# Altium schematic symbol library MOSFET.SchLib: 5 symbols
Pins are listed as number, name and electrical type; pins without a type are passive.

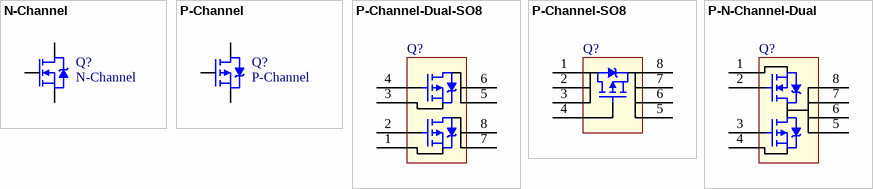
[diagram p0: symbols N-Channel to P-N-Channel-Dual]

## N-Channel
designator Q?
HEXFET Power MOSFET; value: *
footprint SOT-23-3
pins: 1 G, 2 S, 3 D

## P-Channel
designator Q?
HEXFET Power MOSFET; value: *
footprint SOT-23-3
pins: 1 G, 2 S, 3 D

## P-Channel-Dual-SO8
designator Q?, comment Dual P-Channel  (value not drawn)
Dual MOSFET; value: *
footprint SO-8_N (8-Pin Small Outline Integrated Circuit 1.27 mm Pitch, IPC Medium Density)
pins: 1 S2, 2 G2, 3 S1, 4 G1, 5 D1, 6 D1, 7 D2, 8 D2

## P-Channel-SO8
designator Q?, comment P-Channel  (value not drawn)
Dual MOSFET; value: *
footprint SO-8_N (8-Pin Small Outline Integrated Circuit 1.27 mm Pitch, IPC Medium Density)
pins: 1 S, 2 S, 3 S, 4 G1, 5 D, 6 D, 7 D, 8 D

## P-N-Channel-Dual
designator Q?, comment Dual P-Channel  (value not drawn)
Complementary P + N channel MOSFET; value: BSZ15DC02KD
footprint PG-TSDSON-8 (SON, 8-Leads, Body 3,30x3,30mm, Pitch 0,65mm, Thermal Pad 0,00x0,00mm, IPC Medium Density)
pins: 1 S2, 2 G2, 3 S1, 4 G1, 5 D1, 6 D1, 7 D2, 8 D2